# EAGLE library part MK20DX128VLF5 (library ewheel32)
MCU, KINETIS, K20, CORTEX M4, 48LQFP
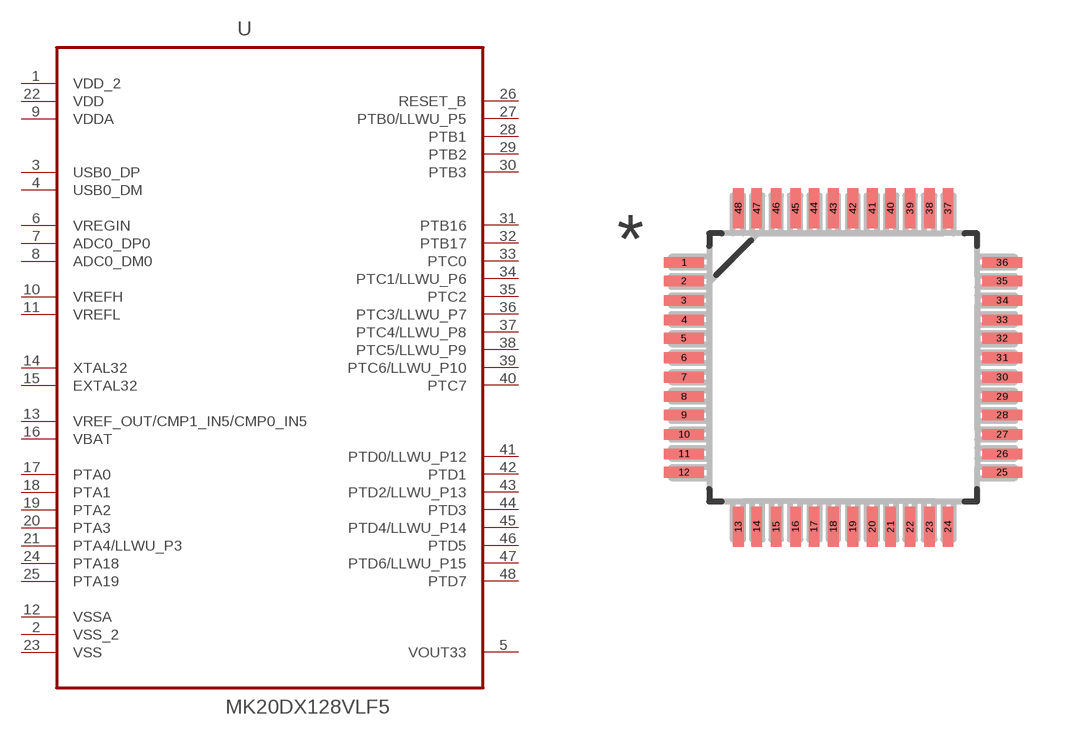
[diagram p4: symbol with the pads of QFP50P900X900X160-48N; footprint QFP50P900X900X160-48N]

Designator prefix U

## MK20DX128VLF5 (MPN: MK20DX128VLF5; OC_FARNELL: 2133571; OC_NEWARK: 89T6175; PACKAGE: 48LQFP; SUPPLIER: FREESCALE SEMICONDUCTOR)  [QFP50P900X900X160-48N]
1  VDD_2  pwr
2  VSS_2  pwr
3  USB0_DP  pas
4  USB0_DM  pas
5  VOUT33  out
6  VREGIN  in
7  ADC0_DP0  pas
8  ADC0_DM0  pas
9  VDDA  pwr
10  VREFH  pas
11  VREFL  pas
12  VSSA  pwr
13  VREF_OUT/CMP1_IN5/CMP0_IN5  pas
14  XTAL32  pas
15  EXTAL32  pas
16  VBAT  pas
17  PTA0
18  PTA1
19  PTA2
20  PTA3
21  PTA4/LLWU_P3
22  VDD  pwr
23  VSS  pwr
24  PTA18
25  PTA19
26  RESET_B  pas
27  PTB0/LLWU_P5
28  PTB1
29  PTB2
30  PTB3
31  PTB16
32  PTB17
33  PTC0
34  PTC1/LLWU_P6
35  PTC2
36  PTC3/LLWU_P7
37  PTC4/LLWU_P8
38  PTC5/LLWU_P9
39  PTC6/LLWU_P10
40  PTC7
41  PTD0/LLWU_P12
42  PTD1
43  PTD2/LLWU_P13
44  PTD3
45  PTD4/LLWU_P14
46  PTD5
47  PTD6/LLWU_P15
48  PTD7

## Footprint QFP50P900X900X160-48N (pad centres in mm)
smd 1.041 x 0.279: 1 -4.166,2.743; 2 -4.166,2.261; 3 -4.166,1.753; 4 -4.166,1.245; 5 -4.166,0.762; 6 -4.166,0.254; 7 -4.166,-0.254; 8 -4.166,-0.762; 9 -4.166,-1.245; 10 -4.166,-1.753; 11 -4.166,-2.261; 12 -4.166,-2.743; 25 4.166,-2.743; 26 4.166,-2.261; 27 4.166,-1.753; 28 4.166,-1.245; 29 4.166,-0.762; 30 4.166,-0.254; 31 4.166,0.254; 32 4.166,0.762; 33 4.166,1.245; 34 4.166,1.753; 35 4.166,2.261; 36 4.166,2.743
smd 0.279 x 1.041: 13 -2.743,-4.166; 14 -2.261,-4.166; 15 -1.753,-4.166; 16 -1.245,-4.166; 17 -0.762,-4.166; 18 -0.254,-4.166; 19 0.254,-4.166; 20 0.762,-4.166; 21 1.245,-4.166; 22 1.753,-4.166; 23 2.261,-4.166; 24 2.743,-4.166; 37 2.743,4.166; 38 2.261,4.166; 39 1.753,4.166; 40 1.245,4.166; 41 0.762,4.166; 42 0.254,4.166; 43 -0.254,4.166; 44 -0.762,4.166; 45 -1.245,4.166; 46 -1.753,4.166; 47 -2.261,4.166; 48 -2.743,4.166